# EAGLE library part INA333AIDGKR (library SamacSys_Parts)
Low-Power, Zero-Drift, Precision Instrumentation Amplifier Source: Datasheet <http://www.ti.com/lit/ds/symlink/ina333.pdf>
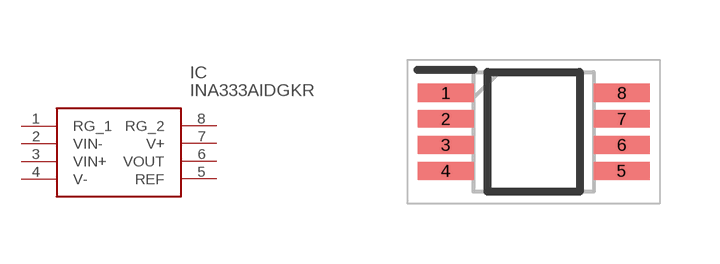
[diagram p9: symbol with the pads of SOP65P490X110-8N; footprint SOP65P490X110-8N]

Designator prefix IC

## INA333AIDGKR (DESCRIPTION: Low-Power, Zero-Drift, Precision Instrumentation Amplifier; HEIGHT: 1.1mm; MANUFACTURER_NAME: Texas Instruments; MANUFACTURER_PART_NUMBER: INA333AIDGKR; MOUSER_PART_NUMBER: 595-INA333AIDGKR; MOUSER_PRICE-STOCK: https://www.mouser.com/Search/Refine.aspx?Keyword=595-INA333AIDGKR)  [SOP65P490X110-8N]
1  RG_1
2  VIN-  in
3  VIN+  in
4  V-
5  REF  in
6  VOUT  out
7  V+
8  RG_2

## Footprint SOP65P490X110-8N (pad centres in mm)
DGK (S-PDSO-G8)
smd 1.4 x 0.45: 1 -2.2,0.975; 2 -2.2,0.325; 3 -2.2,-0.325; 4 -2.2,-0.975; 5 2.2,-0.975; 6 2.2,-0.325; 7 2.2,0.325; 8 2.2,0.975